# Altium footprint library rlc-th.PcbLib: 65 footprints (part 1 of 5)
Each footprint in its own frame and in the unit in brackets; x right, y up, seen from the top. Pads: shape width x height; smd on the part's side, far side on the other; paste and mask are expansions set on the pad; w line width, h text height; cw(c..) or ccw(c..) is an arc to the next point about the centre after c.
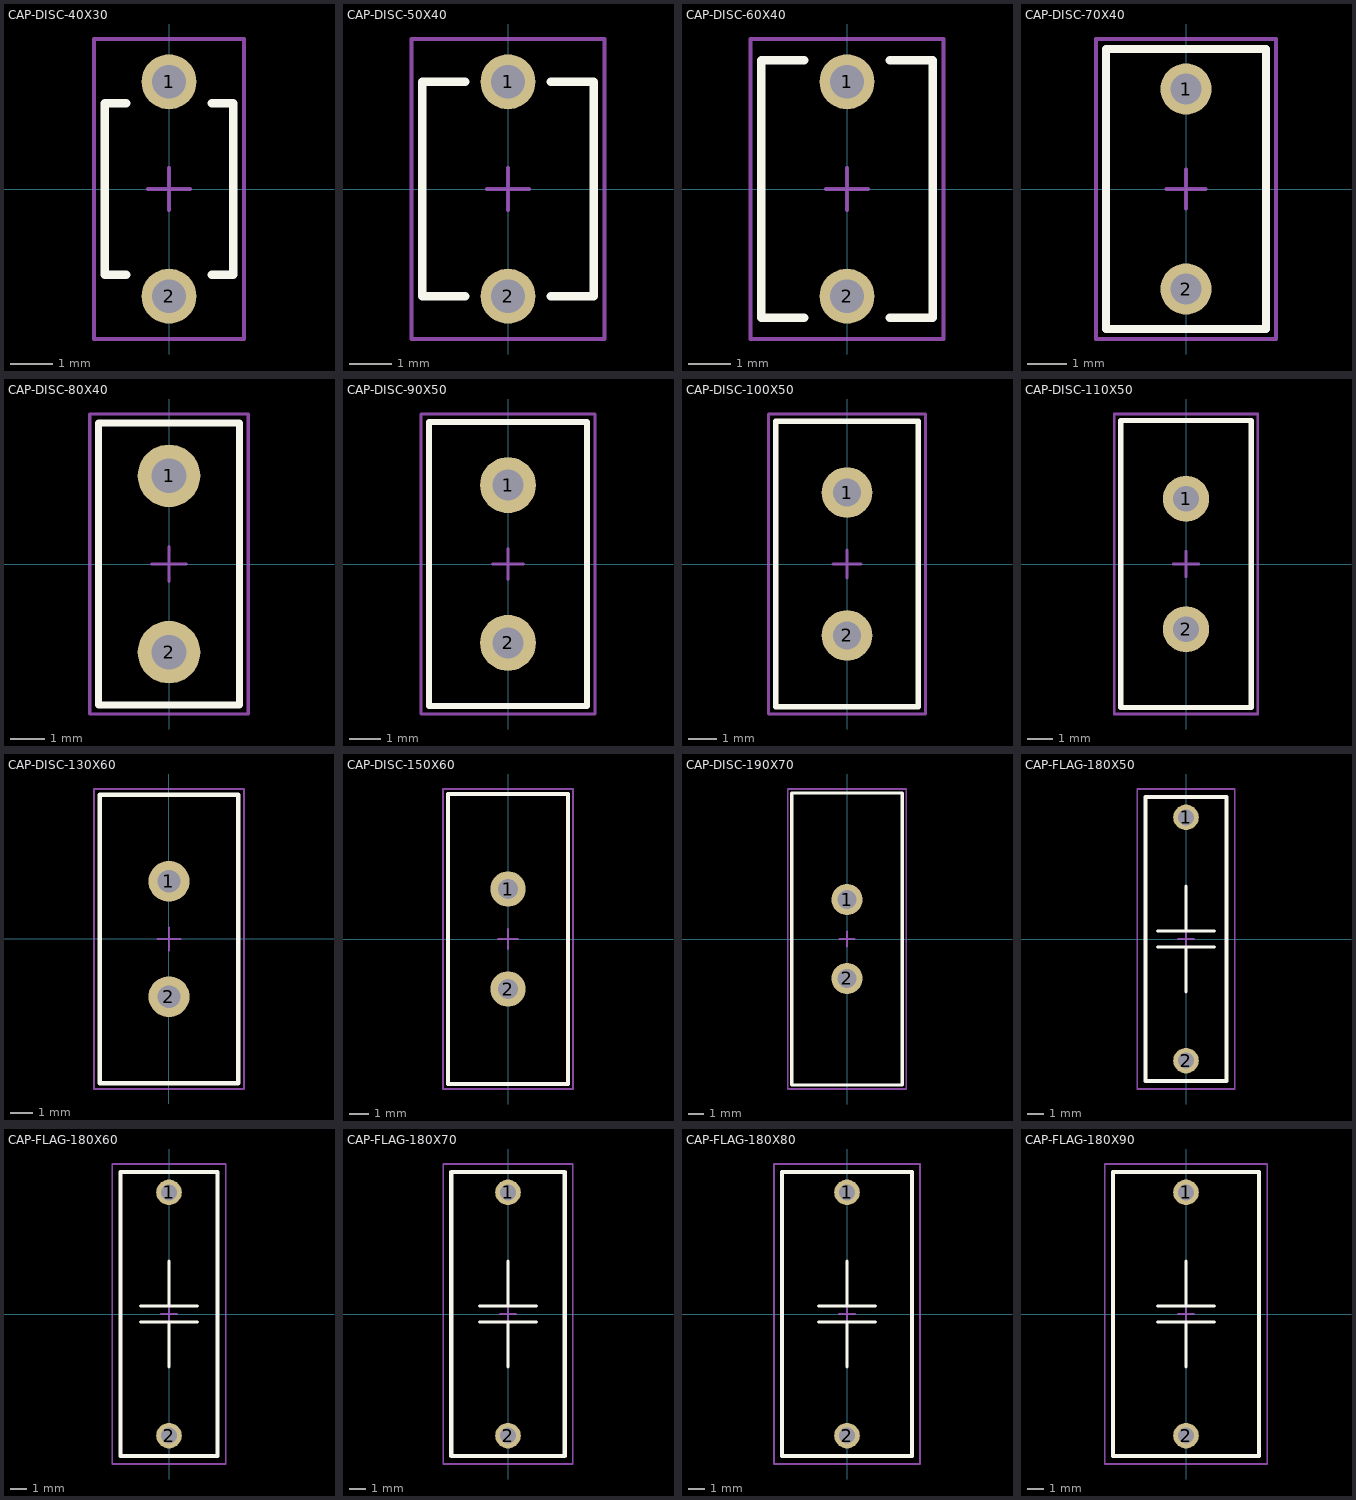
[diagram p0: the footprints below, top view; thin cyan lines are the x and y axes]

## CAP-DISC-40X30 [mm] "QFN, 4-Leads, Body 7,50x5,00mm, Pitch 6,00mm/2,54mm, IPC Medium Density"
height 1.2
pads (2):
  round 1.3 hole 0.8: 1(0,2.54) 2(0,-2.54)
Top Overlay:
  lines w0.2: -1.016,-2.032 -1.524,-2.032 -1.524,2.032 -1.016,2.032 ; 1.016,-2.032 1.524,-2.032 1.524,2.032 1.016,2.032
Mechanical 13:
  lines w0.1: -1.778,-3.556 1.778,-3.556 1.778,3.556 -1.778,3.556 -1.778,-3.556
  text ".Designator" at -0.762,2.54 h1.6
Mechanical 15:
  lines w0.05: -1.778,-3.556 -1.778,3.556 1.778,3.556 1.778,-3.556 -1.778,-3.556
  lines w0.1: -0.5,0 0.5,0 ; 0,-0.5 0,0.5
3D body: height 4.5, standoff 0.5, extent -1.524,-2 1.524,2

## CAP-DISC-50X40 [mm] "QFN, 4-Leads, Body 7,50x5,00mm, Pitch 6,00mm/2,54mm, IPC Medium Density"
height 1.2
pads (2):
  round 1.3 hole 0.8: 1(0,2.54) 2(0,-2.54)
Top Overlay:
  lines w0.2: -1.016,-2.54 -2.032,-2.54 -2.032,2.54 -1.016,2.54 ; 1.016,-2.54 2.032,-2.54 2.032,2.54 1.016,2.54
Mechanical 13:
  lines w0.1: -2.286,-3.556 -2.286,3.556 2.286,3.556 2.286,-3.556 -2.286,-3.556
  text ".Designator" at -0.762,2.54 h1.6
Mechanical 15:
  lines w0.05: -2.286,-3.556 -2.286,3.556 2.286,3.556 2.286,-3.556 -2.286,-3.556
  lines w0.1: -0.5,0 0.5,0 ; 0,-0.5 0,0.5
3D body: height 5.54, standoff 0.46, extent -2.032,-2.537 2.032,2.537

## CAP-DISC-60X40 [mm] "QFN, 4-Leads, Body 7,50x5,00mm, Pitch 6,00mm/2,54mm, IPC Medium Density"
height 1.2
pads (2):
  round 1.3 hole 0.8: 1(0,2.54) 2(0,-2.54)
Top Overlay:
  lines w0.2: -1.016,-3.048 -2.032,-3.048 -2.032,3.048 -1.016,3.048 ; 1.016,-3.048 2.032,-3.048 2.032,3.048 1.016,3.048
Mechanical 13:
  lines w0.1: -2.286,-3.556 -2.286,3.556 2.286,3.556 2.286,-3.556 -2.286,-3.556
  text ".Designator" at -0.762,2.54 h1.6
Mechanical 15:
  lines w0.05: -2.286,-3.556 2.286,-3.556 2.286,3.556 -2.286,3.556 -2.286,-3.556
  lines w0.1: -0.5,0 0.5,0 ; 0,-0.5 0,0.5
3D body: height 6.5, standoff 0.5, extent -2.032,-3 2.032,3

## CAP-DISC-70X40 [mm] "QFN, 4-Leads, Body 7,50x5,00mm, Pitch 6,00mm/2,54mm, IPC Medium Density"
height 1.2
pads (2):
  round 1.3 hole 0.8: 1(0,2.54) 2(0,-2.54)
Top Overlay:
  lines w0.2: -2.032,-3.556 -2.032,3.556 2.032,3.556 2.032,-3.556 -2.032,-3.556
Mechanical 13:
  lines w0.1: -2.286,-3.81 2.286,-3.81 2.286,3.81 -2.286,3.81 -2.286,-3.81
  text ".Designator" at -0.762,2.54 h1.6
Mechanical 15:
  lines w0.05: -2.286,-3.81 2.286,-3.81 2.286,3.81 -2.286,3.81 -2.286,-3.81
  lines w0.1: -0.5,0 0.5,0 ; 0,-0.5 0,0.5
3D body: height 7.5, standoff 0.5, extent -2.032,-3.497 2.032,3.497

## CAP-DISC-80X40 [mm]
height 1.2
pads (2):
  round 1.8 hole 1: 1(0,2.54) 2(0,-2.54)
Top Overlay:
  lines w0.2: -2.032,-4.064 -2.032,4.064 2.032,4.064 2.032,-4.064 -2.032,-4.064
Mechanical 13:
  lines w0.1: -2.286,-4.318 -2.286,4.318 2.286,4.318 2.286,-4.318 -2.286,-4.318
  text ".Designator" at -0.762,2.54 h1.6
Mechanical 15:
  lines w0.05: -2.286,-4.318 2.286,-4.318 2.286,4.318 -2.286,4.318 -2.286,-4.318
  lines w0.1: -0.5,0 0.5,0 ; 0,-0.5 0,0.5
3D body: height 8.5, standoff 0.5, extent -2.032,-3.997 2.032,3.997

## CAP-DISC-90X50 [mm]
height 1.2
pads (2):
  round 1.8 hole 1: 1(0,2.54) 2(0,-2.54)
Top Overlay:
  lines w0.2: -2.54,-4.572 -2.54,4.572 2.54,4.572 2.54,-4.572 -2.54,-4.572
Mechanical 13:
  lines w0.1: -2.794,-4.826 2.794,-4.826 2.794,4.826 -2.794,4.826 -2.794,-4.826
  text ".Designator" at -0.762,2.54 h1.6
Mechanical 15:
  lines w0.05: -2.794,-4.826 2.794,-4.826 2.794,4.826 -2.794,4.826 -2.794,-4.826
  lines w0.1: -0.5,0 0.5,0 ; 0,-0.5 0,0.5
3D body: height 9.5, standoff 0.5, extent -2.54,-4.5 2.54,4.5

## CAP-DISC-100X50 [mm]
height 1.2
pads (2):
  round 1.8 hole 1: 1(0,2.54) 2(0,-2.54)
Top Overlay:
  lines w0.2: -2.54,-5.08 -2.54,5.08 2.54,5.08 2.54,-5.08 -2.54,-5.08
Mechanical 13:
  lines w0.1: -2.794,-5.334 -2.794,5.334 2.794,5.334 2.794,-5.334 -2.794,-5.334
  text ".Designator" at -0.762,2.54 h1.6
Mechanical 15:
  lines w0.05: -2.794,-5.334 2.794,-5.334 2.794,5.334 -2.794,5.334 -2.794,-5.334
  lines w0.1: -0.5,0 0.5,0 ; 0,-0.5 0,0.5
3D body: height 10.58, standoff 0.42, extent -2.54,-5.08 2.54,5.08

## CAP-DISC-110X50 [mm]
height 1.2
pads (2):
  round 1.8 hole 1: 1(0,2.54) 2(0,-2.54)
Top Overlay:
  lines w0.2: -2.54,-5.588 2.54,-5.588 2.54,5.588 -2.54,5.588 -2.54,-5.588
Mechanical 13:
  lines w0.1: -2.794,-5.842 2.794,-5.842 2.794,5.842 -2.794,5.842 -2.794,-5.842
  text ".Designator" at -0.762,2.54 h1.6
Mechanical 15:
  lines w0.05: -2.794,-5.842 -2.794,5.842 2.794,5.842 2.794,-5.842 -2.794,-5.842
  lines w0.1: -0.5,0 0.5,0 ; 0,-0.5 0,0.5
3D body: height 11.5, standoff 0.5, extent -2.54,-5.5 2.54,5.5

## CAP-DISC-130X60 [mm]
height 1.2
pads (2):
  round 1.8 hole 1: 1(0,2.54) 2(0,-2.54)
Top Overlay:
  lines w0.2: -3.048,-6.35 3.048,-6.35 3.048,6.35 -3.048,6.35 -3.048,-6.35
Mechanical 13:
  lines w0.1: -3.302,-6.604 3.302,-6.604 3.302,6.604 -3.302,6.604 -3.302,-6.604
  text ".Designator" at -0.762,2.54 h1.6
Mechanical 15:
  lines w0.05: -3.302,-6.604 -3.302,6.604 3.302,6.604 3.302,-6.604 -3.302,-6.604
  lines w0.1: -0.5,0 0.5,0 ; 0,-0.5 0,0.5
3D body: height 13.5, standoff 0.5, extent -3.048,-6.5 3.048,6.5

## CAP-DISC-150X60 [mm]
height 1.2
pads (2):
  round 1.8 hole 1: 1(0,2.54) 2(0,-2.54)
Top Overlay:
  lines w0.2: -3.048,-7.366 -3.048,7.366 3.048,7.366 3.048,-7.366 -3.048,-7.366
Mechanical 13:
  lines w0.1: -3.302,-7.62 -3.302,7.62 3.302,7.62 3.302,-7.62 -3.302,-7.62
  text ".Designator" at -0.762,2.54 h1.6
Mechanical 15:
  lines w0.05: -3.302,-7.62 3.302,-7.62 3.302,7.62 -3.302,7.62 -3.302,-7.62
  lines w0.1: -0.5,0 0.5,0 ; 0,-0.5 0,0.5
3D body: height 15.5, standoff 0.5, extent -3.048,-7.5 3.048,7.5

## CAP-DISC-190X70 [mm]
height 1.2
pads (2):
  round 2 hole 1.2: 1(0,2.54) 2(0,-2.54)
Top Overlay:
  lines w0.2: -3.556,-9.398 -3.556,9.398 3.556,9.398 3.556,-9.398 -3.556,-9.398
Mechanical 13:
  lines w0.1: -3.81,-9.652 -3.81,9.652 3.81,9.652 3.81,-9.652 -3.81,-9.652
  text ".Designator" at -0.762,2.54 h1.6
Mechanical 15:
  lines w0.05: -3.81,-9.652 3.81,-9.652 3.81,9.652 -3.81,9.652 -3.81,-9.652
  lines w0.1: -0.5,0 0.5,0 ; 0,-0.5 0,0.5
3D body: height 19.5, standoff 0.5, extent -3.556,-9.497 3.556,9.497

## CAP-FLAG-180X50 [mm] "CAP, Body 18x5,0mm, Pitch 15,24mm/2,54mm, IPC Medium Density"
height 1.2
pads (2):
  round 1.6 hole 1: 1(0,7.62) 2(0,-7.62)
Top Overlay:
  lines w0.2: -1.778,-0.508 1.778,-0.508 ; -1.778,0.508 1.778,0.508 ; 0,-3.302 0,-0.508 ; 0,0.508 0,3.302
  lines w0.254: -2.54,-8.89 2.54,-8.89 2.54,8.89 -2.54,8.89 -2.54,-8.89
Mechanical 13:
  lines w0.1: -3.048,-9.398 3.048,-9.398 3.048,9.398 -3.048,9.398 -3.048,-9.398
  text ".Designator" at -0.762,2.54 h1.6
Mechanical 15:
  lines w0.05: -3.048,-9.398 -3.048,9.398 3.048,9.398 3.048,-9.398 -3.048,-9.398
  lines w0.1: -0.5,0 0.5,0 ; 0,-0.5 0,0.5
3D body: height 12, standoff 0.1, extent -2.54,-8.89 2.54,8.89

## CAP-FLAG-180X60 [mm] "CAP, Body 18x6,0mm, Pitch 15,24mm/2,54mm, IPC Medium Density"
height 1.2
pads (2):
  round 1.6 hole 1: 1(0,7.62) 2(0,-7.62)
Top Overlay:
  lines w0.2: -1.778,-0.508 1.778,-0.508 ; -1.778,0.508 1.778,0.508 ; 0,-3.302 0,-0.508 ; 0,0.508 0,3.302
  lines w0.254: -3.048,-8.89 -3.048,8.89 3.048,8.89 3.048,-8.89 -3.048,-8.89
Mechanical 13:
  lines w0.1: -3.556,-9.398 -3.556,9.398 3.556,9.398 3.556,-9.398 -3.556,-9.398
  text ".Designator" at -0.762,2.54 h1.6
Mechanical 15:
  lines w0.05: -3.556,-9.398 3.556,-9.398 3.556,9.398 -3.556,9.398 -3.556,-9.398
  lines w0.1: -0.5,0 0.5,0 ; 0,-0.5 0,0.5
3D body: height 12, standoff 0.1, extent -3.048,-8.89 3.048,8.89

## CAP-FLAG-180X70 [mm] "CAP, Body 18x7,0mm, Pitch 15,24mm/2,54mm, IPC Medium Density"
height 1.2
pads (2):
  round 1.6 hole 1: 1(0,7.62) 2(0,-7.62)
Top Overlay:
  lines w0.2: -1.778,-0.508 1.778,-0.508 ; -1.778,0.508 1.778,0.508 ; 0,-3.302 0,-0.508 ; 0,0.508 0,3.302
  lines w0.254: -3.556,-8.89 -3.556,8.89 3.556,8.89 3.556,-8.89 -3.556,-8.89
Mechanical 13:
  lines w0.1: -4.064,-9.398 -4.064,9.398 4.064,9.398 4.064,-9.398 -4.064,-9.398
  text ".Designator" at -0.762,2.54 h1.6
Mechanical 15:
  lines w0.05: -4.064,-9.398 4.064,-9.398 4.064,9.398 -4.064,9.398 -4.064,-9.398
  lines w0.1: -0.5,0 0.5,0 ; 0,-0.5 0,0.5
3D body: height 12, standoff 0.1, extent -3.556,-8.89 3.556,8.89

## CAP-FLAG-180X80 [mm] "CAP, Body 18x8,0mm, Pitch 15,24mm/2,54mm, IPC Medium Density"
height 1.2
pads (2):
  round 1.6 hole 1: 1(0,7.62) 2(0,-7.62)
Top Overlay:
  lines w0.2: -1.778,-0.508 1.778,-0.508 ; -1.778,0.508 1.778,0.508 ; 0,-3.302 0,-0.508 ; 0,0.508 0,3.302
  lines w0.254: -4.064,-8.89 -4.064,8.89 4.064,8.89 4.064,-8.89 -4.064,-8.89
Mechanical 13:
  lines w0.1: -4.572,-9.398 -4.572,9.398 4.572,9.398 4.572,-9.398 -4.572,-9.398
  text ".Designator" at -0.762,2.54 h1.6
Mechanical 15:
  lines w0.05: -4.572,-9.398 4.572,-9.398 4.572,9.398 -4.572,9.398 -4.572,-9.398
  lines w0.1: -0.5,0 0.5,0 ; 0,-0.5 0,0.5
3D body: height 12, standoff 0.1, extent -4.064,-8.89 4.064,8.89

## CAP-FLAG-180X90 [mm] "CAP, Body 18x9,0mm, Pitch 15,24mm/2,54mm, IPC Medium Density"
height 1.2
pads (2):
  round 1.6 hole 1: 1(0,7.62) 2(0,-7.62)
Top Overlay:
  lines w0.2: -1.778,-0.508 1.778,-0.508 ; -1.778,0.508 1.778,0.508 ; 0,-3.302 0,-0.508 ; 0,0.508 0,3.302
  lines w0.254: -4.572,-8.89 -4.572,8.89 4.572,8.89 4.572,-8.89 -4.572,-8.89
Mechanical 13:
  lines w0.1: -5.08,-9.398 -5.08,9.398 5.08,9.398 5.08,-9.398 -5.08,-9.398
  text ".Designator" at -0.762,2.54 h1.6
Mechanical 15:
  lines w0.05: -5.08,-9.398 5.08,-9.398 5.08,9.398 -5.08,9.398 -5.08,-9.398
  lines w0.1: -0.5,0 0.5,0 ; 0,-0.5 0,0.5
3D body: height 12, standoff 0.1, extent -4.572,-8.89 4.572,8.89